# EAGLE library part BM10JC-16DP-0.4V(53) (library hirose-bm10)
CONN HDR 16POS SMD GOLD Digikey: H124533CT-ND <https://www.digikey.com/product-detail/en/hirose-electric-co-ltd/BM10JC-16DP-0.4V-53/H124533CT-ND/5155836>
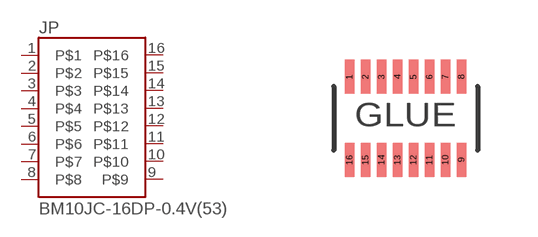
[diagram p0: symbol with the pads of BM10JC16; footprint BM10JC16]

Designator prefix JP

## BM10JC-16DP-0.4V(53)  [BM10JC16]
1  P$1
2  P$2
3  P$3
4  P$4
5  P$5
6  P$6
7  P$7
8  P$8
9  P$9
10  P$10
11  P$11
12  P$12
13  P$13
14  P$14
15  P$15
16  P$16

## Footprint BM10JC16 (pad centres in mm)
smd 0.23 x 0.85: 1 0,1.04; 2 0.4,1.04; 3 0.8,1.04; 4 1.2,1.04; 5 1.6,1.04; 6 2,1.04; 7 2.4,1.04; 8 2.8,1.04; 9 2.8,-1.04; 10 2.4,-1.04; 11 2,-1.04; 12 1.6,-1.04; 13 1.2,-1.04; 14 0.8,-1.04; 15 0.4,-1.04; 16 0,-1.04